# EAGLE library part MAX5134_DAC (library jason_eagle6)
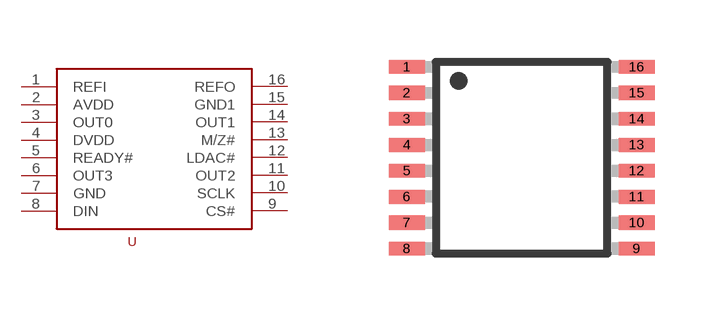
[diagram p33: symbol with the pads of TSSOP16; footprint TSSOP16]

Designator prefix -

## MAX5134_DAC  [TSSOP16]
1  REFI
2  AVDD
3  OUT0
4  DVDD
5  READY#
6  OUT3
7  GND
8  DIN
9  CS#
10  SCLK
11  OUT2
12  LDAC#
13  M/Z#
14  OUT1
15  GND1
16  REFO

## Footprint TSSOP16 (pad centres in mm)
16-Lead Thin Shrink Small Outline Package [TSSOP] (RU-16) Source: 8x ADG1408_1409.pdf
smd 0.9 x 0.35: 1 -2.875,2.275; 2 -2.875,1.625; 3 -2.875,0.975; 4 -2.875,0.325; 5 -2.875,-0.325; 6 -2.875,-0.975; 7 -2.875,-1.625; 8 -2.875,-2.275; 9 2.875,-2.275; 10 2.875,-1.625; 11 2.875,-0.975; 12 2.875,-0.325; 13 2.875,0.325; 14 2.875,0.975; 15 2.875,1.625; 16 2.875,2.275